# Altium schematic symbol library DIODES.SchLib: 3 symbols
Pins are listed as number, name and electrical type; pins without a type are passive.

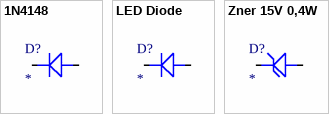
[diagram p0: symbols 1N4148 to Zner 15V 0,4W]

## 1N4148
designator D?
footprint 1N4148
pins: A, K

## LED Diode
designator D?
footprint Led Diode 5mm tht - duplicate
pins: A, K

## Zner 15V 0,4W
designator D?
footprint ZENER 15V 0.4W
pins: A, K